# Altium schematic symbol library SOT-23 MMBT5401 2L.Schlib: 1 symbol
Pins are listed as number, name and electrical type; pins without a type are passive.

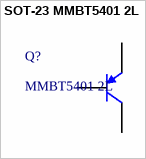
[diagram p0: symbol SOT-23 MMBT5401 2L]

## SOT-23 MMBT5401 2L
designator Q?, comment MMBT5401 2L
三极管
footprint SOT-23(SOT-23-3)
pins: 1 B, 2 E, 3 C